# Altium footprint library SSM3J133TU.PcbLib: 3 footprints
Each footprint in its own frame and in the unit in brackets; x right, y up, seen from the top. Pads: shape width x height; smd on the part's side, far side on the other; paste and mask are expansions set on the pad; w line width, h text height; cw(c..) or ccw(c..) is an arc to the next point about the centre after c.
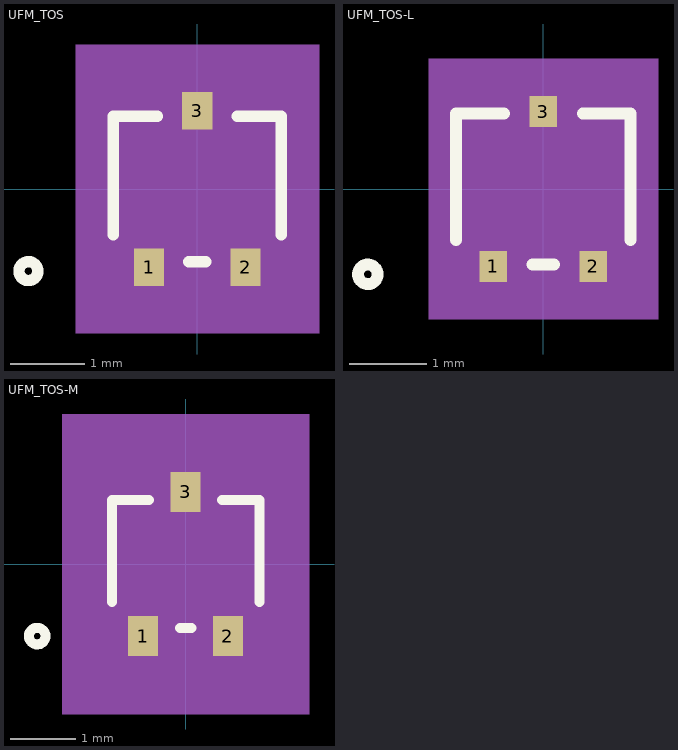
[diagram p0: the footprints below, top view; thin cyan lines are the x and y axes]

## UFM_TOS [mil]
pads (3):
  rect 16x20 smd paste+0 mask+0: 1(-25.59,-41.5) 2(25.59,-41.5) 3(0,41.5)
Top Overlay:
  circle w6: c-89.5,-43.5 r5
  lines w6: -44.5,-24.25 -44.5,38.5 -21.1,38.5 ; -4.49,-38.5 4.49,-38.5 ; 21.1,38.5 44.5,38.5 44.5,-24.25
Mechanical 5:
  region: -64.5,76.5 64.5,76.5 64.5,-76.5 -64.5,-76.5
Mechanical 13:
  circle w0: c-29.5,-23.5 r5
  lines w1: -39.5,-33.5 39.5,-33.5 39.5,33.5 -39.5,33.5 -39.5,-33.5 ; -33.59,-43.5 -33.59,-33.5 -17.59,-33.5 -17.59,-43.5 -33.59,-43.5 ; -8,33.5 8,33.5 8,43.5 -8,43.5 -8,33.5 ; 17.59,-43.5 17.59,-33.5 33.59,-33.5 33.59,-43.5 17.59,-43.5
Mechanical 15:
  region: -49.5,-43.5 -49.5,43.5 -18,43.5 -18,61.5 18,61.5 18,43.5 49.5,43.5 49.5,-43.5 43.59,-43.5 43.59,-61.5 -43.59,-61.5 -43.59,-43.5
  region: 39.5,-33.5 -39.5,-33.5 -39.5,33.5 39.5,33.5
  lines w6: -49.5,-43.5 -49.5,43.5 -18,43.5 -18,61.5 18,61.5 18,43.5 49.5,43.5 49.5,-43.5 43.59,-43.5 43.59,-61.5 -43.59,-61.5 -43.59,-43.5 -49.5,-43.5
3D body: height 10, standoff 0, extent 0,0 10,10

## UFM_TOS-L [mil]
pads (3):
  rect 14x16 smd paste+0 mask+0: 1(-25.59,-39.5) 2(25.59,-39.5) 3(0,39.5)
Top Overlay:
  circle w6: c-89.5,-43.5 r5
  lines w6: -44.5,-26.04 -44.5,38.5 -20.1,38.5 ; -5.49,-38.5 5.49,-38.5 ; 20.1,38.5 44.5,38.5 44.5,-26.04
Mechanical 5:
  region: -58.5,66.5 58.5,66.5 58.5,-66.5 -58.5,-66.5
Mechanical 13:
  circle w0: c-29.5,-23.5 r5
  lines w1: -39.5,-33.5 39.5,-33.5 39.5,33.5 -39.5,33.5 -39.5,-33.5 ; -33.59,-43.5 -33.59,-33.5 -17.59,-33.5 -17.59,-43.5 -33.59,-43.5 ; -8,33.5 8,33.5 8,43.5 -8,43.5 -8,33.5 ; 17.59,-43.5 17.59,-33.5 33.59,-33.5 33.59,-43.5 17.59,-43.5
Mechanical 15:
  region: -43.5,-37.5 -43.5,37.5 -12,37.5 -12,51.5 12,51.5 12,37.5 43.5,37.5 43.5,-37.5 37.59,-37.5 37.59,-51.5 -37.59,-51.5 -37.59,-37.5
  region: 39.5,-33.5 -39.5,-33.5 -39.5,33.5 39.5,33.5
  lines w6: -43.5,-37.5 -43.5,37.5 -11,37.5 -11,51.5 11,51.5 11,37.5 43.5,37.5 43.5,-37.5 36.59,-37.5 36.59,-51.5 -36.59,-51.5 -36.59,-37.5 -43.5,-37.5
3D body: height 10, standoff 0, extent 0,0 10,10

## UFM_TOS-M [mil]
pads (3):
  rect 18x24 smd paste+0 mask+0: 1(-25.59,-43.5) 2(25.59,-43.5) 3(0,43.5)
Top Overlay:
  circle w6: c-89.5,-43.5 r5
  lines w6: -44.5,-22.93 -44.5,38.5 -22.1,38.5 ; -3.49,-38.5 3.49,-38.5 ; 22.1,38.5 44.5,38.5 44.5,-22.93
Mechanical 5:
  region: -74.5,90.5 74.5,90.5 74.5,-90.5 -74.5,-90.5
Mechanical 13:
  circle w0: c-29.5,-23.5 r5
  lines w1: -39.5,-33.5 39.5,-33.5 39.5,33.5 -39.5,33.5 -39.5,-33.5 ; -33.59,-43.5 -33.59,-33.5 -17.59,-33.5 -17.59,-43.5 -33.59,-43.5 ; -8,33.5 8,33.5 8,43.5 -8,43.5 -8,33.5 ; 17.59,-43.5 17.59,-33.5 33.59,-33.5 33.59,-43.5 17.59,-43.5
Mechanical 15:
  region: -59.5,-53.5 -59.5,53.5 -28,53.5 -28,75.5 28,75.5 28,53.5 59.5,53.5 59.5,-53.5 53.59,-53.5 53.59,-75.5 -53.59,-75.5 -53.59,-53.5
  region: 39.5,-33.5 -39.5,-33.5 -39.5,33.5 39.5,33.5
  lines w6: -59.5,-53.5 -59.5,53.5 -29,53.5 -29,75.5 29,75.5 29,53.5 59.5,53.5 59.5,-53.5 54.59,-53.5 54.59,-75.5 -54.59,-75.5 -54.59,-53.5 -59.5,-53.5
3D body: height 10, standoff 0, extent 0,0 10,10